# EAGLE library part ISO1541D (library parts)
2.5 kVrms Isolated Unidirectional Clock, Bidirectional I2C Isolators Source: Datasheet <http://www.ti.com/lit/gpn/iso1541>
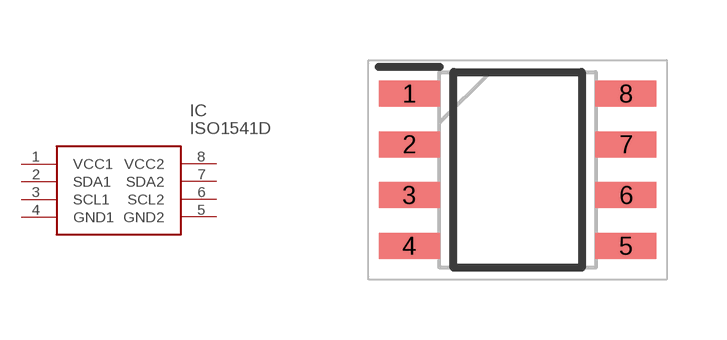
[diagram p7: symbol with the pads of SOIC127P600X175-8N; footprint SOIC127P600X175-8N]

Designator prefix IC

## ISO1541D (DESCRIPTION: 2.5 kVrms Isolated Unidirectional Clock, Bidirectional I2C Isolators; HEIGHT: 1.75mm; MANUFACTURER_NAME: Texas Instruments; MANUFACTURER_PART_NUMBER: ISO1541D; MOUSER_PART_NUMBER: 595-ISO1541D; MOUSER_PRICE-STOCK: https://www.mouser.com/Search/Refine.aspx?Keyword=595-ISO1541D; RS_PART_NUMBER: 8253075P; RS_PRICE-STOCK: http://uk.rs-online.com/web/p/products/8253075P)  [SOIC127P600X175-8N]
1  VCC1  pwr
2  SDA1
3  SCL1
4  GND1
5  GND2
6  SCL2
7  SDA2
8  VCC2

## Footprint SOIC127P600X175-8N (pad centres in mm)
D (R-PDSO-G8)
smd 1.525 x 0.65: 1 -2.712,1.905; 2 -2.712,0.635; 3 -2.712,-0.635; 4 -2.712,-1.905; 5 2.712,-1.905; 6 2.712,-0.635; 7 2.712,0.635; 8 2.712,1.905